# EAGLE library part 615008137421 (library Eagle_WR-MJ (rev23b))
WR-MJ Modular Jack Tab Up General Information Operating Temperature -40 up to +85 °C LED 2xBipolar Y/G; yellow-green Electrical Properties Working Voltage 120 V (AC) Withstanding Voltage 1000 V (AC) Contact Resistance 20 mΩ RISO 500 MΩ Material Properties Insulator Material PBT Insulator Flammability Rating UL94 V-0 Insulator Color Black Contact Material Copper Alloy Contact Plating Selective Gold Contact Type Stamped Shielding Material Bronze Shielding Plating Nickel (Ni) Packaging Properties Packaging Tray <https://www.we-online.com/components/media/o33152v209%20Family_WR-MJ_6150081xxx21.jpg> Details see: www.we-online.com/en/components/products/MJ_HORIZONTAL_SHIELDED_W_LED_AND_EMI_PANEL_FINGER_8P8C_TAB_UP <www.we-online.com/catalog/MJ_HORIZONTAL_SHIELDED_W_LED_AND_EMI_PANEL_FINGER_8P8C_TAB_UP/?utm_source=eagle_model&utm_medium=description_link&utm_campaign=eisos_eagle> Updated by Ella Wu 2023-11-13 2023 (C) Würth Elektronik
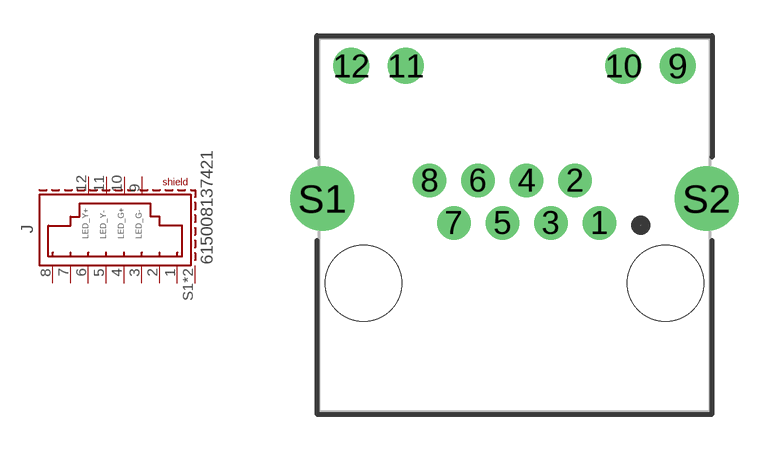
[diagram p53: symbol with the pads of 615008137421; footprint 615008137421]

Designator prefix J

## 615008137421 (DATASHEET-URL: https://www.we-online.com/redexpert/spec/615008137421?ae; LED: yellow-green; MOUNT: THT; PART-NUMBER: 615008137421; TYPE: Horizontal; VALUE: 615008137421; XPXC: 8P8C)  [615008137421]
1  1  pas
2  2  pas
3  3  pas
4  4  pas
5  5  pas
6  6  pas
7  7  pas
8  8  pas
9  G-  pas
10  G+  pas
11  Y-  pas
12  Y+  pas
S1  SHIELD  pas
S2  SHIELD  pas

## Footprint 615008137421 (pad centres in mm)
WR-MJ Modular Jack Tab Up THT,8Pins
drill 0.9: 1 3.57,2.54; 2 2.55,4.32; 3 1.53,2.54; 4 0.51,4.32; 5 -0.51,2.54; 6 -1.53,4.32; 7 -2.55,2.54; 8 -3.57,4.32
drill 1: 9 6.86,9.13; 10 4.57,9.13; 11 -4.57,9.13; 12 -6.86,9.13
drill 1.8: S1 -8.075,3.56; S2 8.075,3.56
hole 3.2 at -6.35,0
hole 3.2 at 6.35,0